# Altium footprint library 73391-0060.PcbLib: 1 footprints
Each footprint in its own frame and in the unit in brackets; x right, y up, seen from the top. Pads: shape width x height; smd on the part's side, far side on the other; paste and mask are expansions set on the pad; w line width, h text height; cw(c..) or ccw(c..) is an arc to the next point about the centre after c.
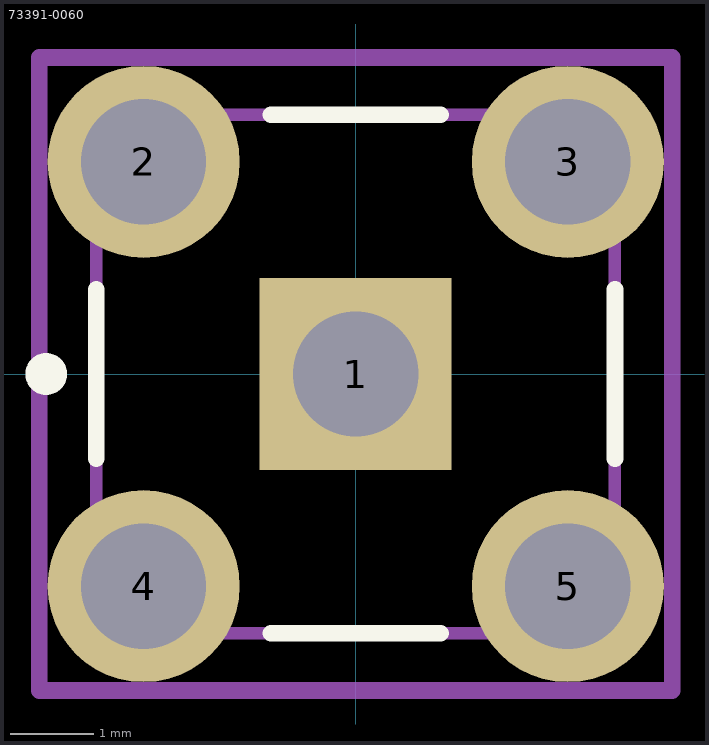
[diagram p0: the footprint, top view; thin cyan lines are the x and y axes]

## 73391-0060 [mm]
pads (5):
  rect 2.3x2.3 hole 1.5 paste-1000 mask+0: 1(0,0)
  round 2.3 hole 1.5 paste-1000 mask+0: 2(-2.54,2.54) 3(2.54,2.54) 4(-2.54,-2.54) 5(2.54,-2.54)
Top Overlay:
  circle w0.25: c-3.705,0 r0.125
  lines w0.2: -3.105,-1.015 -3.105,1.015 ; -1.015,-3.105 1.015,-3.105 ; -1.015,3.105 1.015,3.105 ; 3.105,-1.015 3.105,1.015
Top Assembly:
  lines w0.1: -0.5,0 0.5,0 ; 0,-0.5 0,0.5
  lines w0.15: -3.105,-3.105 3.105,-3.105 3.105,3.105 -3.105,3.105 -3.105,-3.105
  lines w0.2: -3.79,-3.79 -3.79,3.79 3.79,3.79 3.79,-3.79 -3.79,-3.79
Top Courtyard:
  lines w0.2: -3.79,-3.79 3.79,-3.79 3.79,3.79 -3.79,3.79 -3.79,-3.79
3D body "Conn_Molex_0733910060_eec.STEP": height 9.54, standoff -3.96, extent -3.129,-3.175 3.129,3.081